# EAGLE library part ANDDEAR_5PORT3 (library ali_modules)
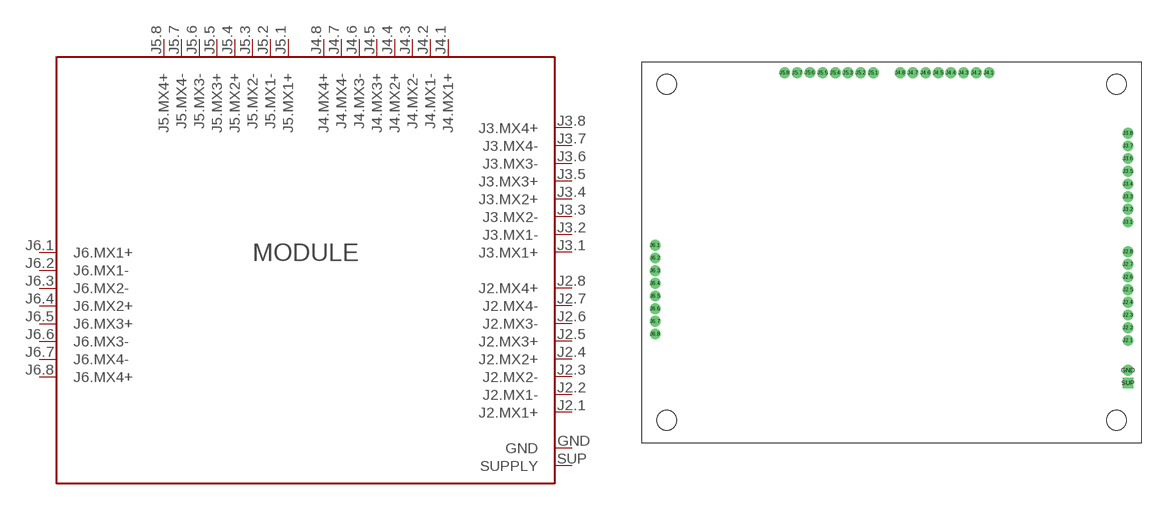
[diagram p19: symbol with the pads of ANDDEAR_5PORT3; footprint ANDDEAR_5PORT3]

Designator prefix MODULE

## ANDDEAR_5PORT3  [ANDDEAR_5PORT3]
GND  GND
J2.1  J2.MX1+
J2.2  J2.MX1-
J2.3  J2.MX2-
J2.4  J2.MX2+
J2.5  J2.MX3+
J2.6  J2.MX3-
J2.7  J2.MX4-
J2.8  J2.MX4+
J3.1  J3.MX1+
J3.2  J3.MX1-
J3.3  J3.MX2-
J3.4  J3.MX2+
J3.5  J3.MX3+
J3.6  J3.MX3-
J3.7  J3.MX4-
J3.8  J3.MX4+
J4.1  J4.MX1+
J4.2  J4.MX1-
J4.3  J4.MX2-
J4.4  J4.MX2+
J4.5  J4.MX3+
J4.6  J4.MX3-
J4.7  J4.MX4-
J4.8  J4.MX4+
J5.1  J5.MX1+
J5.2  J5.MX1-
J5.3  J5.MX2-
J5.4  J5.MX2+
J5.5  J5.MX3+
J5.6  J5.MX3-
J5.7  J5.MX4-
J5.8  J5.MX4+
J6.1  J6.MX1+
J6.2  J6.MX1-
J6.3  J6.MX2-
J6.4  J6.MX2+
J6.5  J6.MX3+
J6.6  J6.MX3-
J6.7  J6.MX4-
J6.8  J6.MX4+
SUP  SUPPLY

## Footprint ANDDEAR_5PORT3 (pad centres in mm)
drill 1 pad 1.7: GND 37.3,-18.61; J2.1 37.3,-13.9; J2.2 37.3,-11.9; J2.3 37.3,-9.9; J2.4 37.3,-7.9; J2.5 37.31,-5.9; J2.6 37.3,-3.9; J2.7 37.3,-1.9; J2.8 37.3,0.1; J3.1 37.3,4.77; J3.2 37.3,6.77; J3.3 37.3,8.77; J3.4 37.3,10.77; J3.5 37.3,12.77; J3.6 37.3,14.77; J3.7 37.3,16.77; J3.8 37.3,18.77; J4.1 15.36,28.3; J4.2 13.36,28.3; J4.3 11.36,28.3; J4.4 9.36,28.3; J4.5 7.36,28.3; J4.6 5.36,28.3; J4.7 3.36,28.3; J4.8 1.36,28.3; J5.1 -2.89,28.3; J5.2 -4.89,28.3; J5.3 -6.89,28.3; J5.4 -8.89,28.3; J5.5 -10.89,28.3; J5.6 -12.89,28.33; J5.7 -14.89,28.3; J5.8 -16.89,28.3; J6.1 -37.3,1.1; J6.2 -37.3,-0.9; J6.3 -37.3,-2.9; J6.4 -37.3,-4.9; J6.5 -37.3,-6.9; J6.6 -37.3,-8.9; J6.7 -37.3,-10.9; J6.8 -37.3,-12.9
drill 1 pad 1.7 square: SUP 37.3,-20.61